# Altium footprint library CL10A475KO8NNNC.PcbLib: 1 footprints
Each footprint in its own frame and in the unit in brackets; x right, y up, seen from the top. Pads: shape width x height; smd on the part's side, far side on the other; paste and mask are expansions set on the pad; w line width, h text height; cw(c..) or ccw(c..) is an arc to the next point about the centre after c.
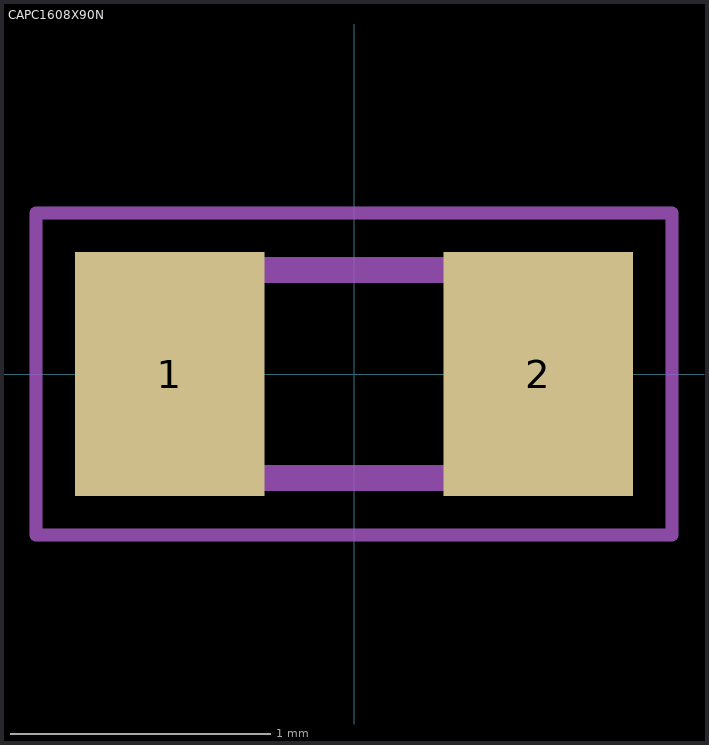
[diagram p0: the footprint, top view; thin cyan lines are the x and y axes]

## CAPC1608X90N [mm]
pads (2):
  rect 0.73x0.94 smd: 1(-0.71,0) 2(0.71,0)
Mechanical 13:
  lines w0.1: -0.8,-0.4 0.8,-0.4 0.8,0.4 -0.8,0.4 -0.8,-0.4
Mechanical 15:
  lines w0.05: -1.225,-0.62 1.225,-0.62 1.225,0.62 -1.225,0.62 -1.225,-0.62
3D body "CL10A475KO8NNNC.stp": height 0.9, standoff 0, extent -0.8,-0.4 0.8,0.4